# EAGLE library part LY3088 (library led-seg)
8x8 Red LED matrix Size: 38.00*38.00*10.00 mm Forward Voltage: 2V Forward Current: 5-10mA
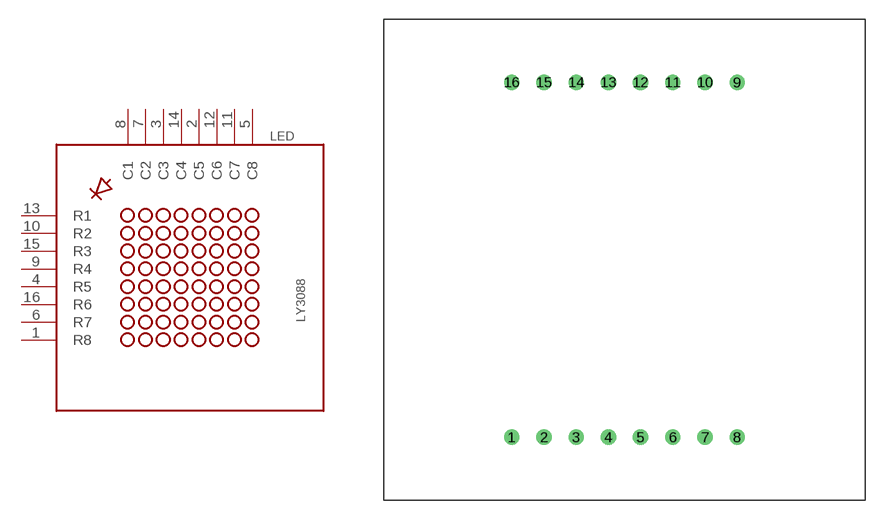
[diagram p11: symbol with the pads of 8X8_38MM; footprint 8X8_38MM]

Designator prefix LED

## LY3088  [8X8_38MM]
1  R8  in
2  C5  in
3  C3  in
4  R5  in
5  C8  in
6  R7  in
7  C2  in
8  C1  in
9  R4  in
10  R2  in
11  C7  in
12  C6  in
13  R1  in
14  C4  in
15  R3  in
16  R6  in

## Footprint 8X8_38MM (pad centres in mm)
drill 0.7: 1 -8.89,-14; 2 -6.35,-14; 3 -3.81,-14; 4 -1.27,-14; 5 1.27,-14; 6 3.81,-14; 7 6.35,-14; 8 8.89,-14; 9 8.89,14; 10 6.35,14; 11 3.81,14; 12 1.27,14; 13 -1.27,14; 14 -3.81,14; 15 -6.35,14; 16 -8.89,14